# Altium integrated library OPAMP LMV342MA.IntLib: 1 symbol
Pins are listed as number, name and electrical type; pins without a type are passive.

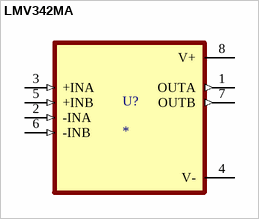
[diagram p0: symbol LMV342MA]

## LMV342MA
designator U?
Dual, 5.5-V, 1-MHz, high output current (75-mA) op amp; MF: Texas Instruments; MP: LMV342MAX/NOPB; SnapEDA_Link: https://www.snapeda.com/parts/LMV342MAX/NOPB/Texas+Instruments/view-part/?ref=snap; Package: SOIC-8 Texas Instruments; Value: *; Check_prices: https://www.snapeda.com/parts/LMV342MAX/NOPB/Texas+Instruments/view-part/?ref=eda
footprint SOIC127P599X175-8N
pins: 1 OUTA (out), 2 -INA (in), 3 +INA (in), 4 V- (power), 5 +INB (in), 6 -INB (in), 7 OUTB (out), 8 V+ (power)